# Altium schematic symbol library Schlib1.SchLib: 5 symbols
Pins are listed as number, name and electrical type; pins without a type are passive.

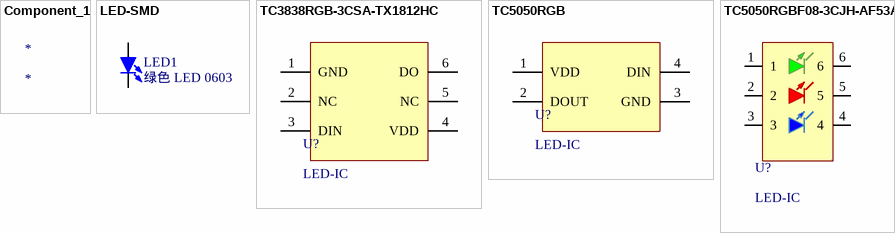
[diagram p0: symbols Component_1 to TC5050RGBF08-3CJH-AF53A]

## Component_1
designator *

## LED-SMD
designator LED1, comment 绿色 LED 0603
贴片LED; 版权归属: 源创客; BOM名称: 贴片LED; 学习资源: www.ooocke.com
footprint LED 0603W (白色0603LED)
footprint LED 0603R (红色0603LED)
footprint LED 0603B (蓝色0603LED)
footprint LED 0603G (绿色0603LED)
footprint LED 0603Y (黄色0603LED)
footprint LED 0805G (绿色0805LED)
footprint LED 0805R (红色0805LED)
footprint LED 0805B (蓝色0805LED)
footprint LED 0805Y (黄色0805LED)
footprint LED 3528 (白色3528LED)
footprint LED 1206G (绿色1206LED)
footprint LED 5730-V (紫色5730LED)
footprint LED 1206Y (黄色1206LED)
footprint LED 0805W (白色0805LED)
footprint LED 1206B (蓝色1206LED)
footprint LED 1206W (白色1206LED)
footprint LED 1206R (红色1206LED)
pins: 1 A, 2 K

## TC3838RGB-3CSA-TX1812HC
designator U?, comment LED-IC
footprint LED-SMD_6P-L3.5-W3.5-BR_TC3838RGB
pins: 1 GND, 2 NC, 3 DIN, 4 VDD, 5 NC, 6 DO

## TC5050RGB
designator U?, comment LED-IC
footprint LED-SMD_4P-L5.0-W5.0-BL_TC5050RGB
pins: 1 VDD, 2 DOUT, 3 GND, 4 DIN

## TC5050RGBF08-3CJH-AF53A
designator U?, comment LED-IC
pins: 1, 2, 3, 4, 5, 6